# EAGLE library part COMMON_MODE_CHOKE (library selfmade)
WE-SL3 SMT COMMON MODE LINE FILT
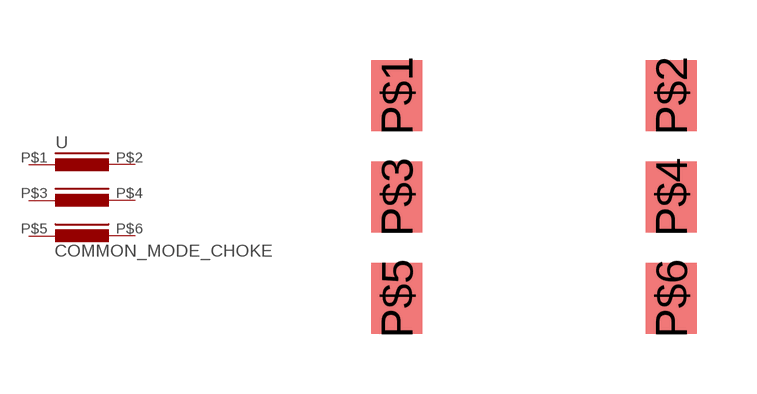
[diagram p0: symbol with the pads of COMMON_MODE_CHOKE; footprint COMMON_MODE_CHOKE]

Designator prefix -

## COMMON_MODE_CHOKE  [COMMON_MODE_CHOKE]
P$1  1  pas
P$2  2  pas
P$3  3  pas
P$4  4  pas
P$5  5  pas
P$6  6  pas

## Footprint COMMON_MODE_CHOKE (pad centres in mm)
smd 1.27 x 1.78: P$1 0,5.08; P$2 6.86,5.08; P$3 0,2.54; P$4 6.86,2.54; P$5 0,0; P$6 6.86,0